# Altium schematic symbol library N-MOSFET-D.SchLib: 1 symbol
Pins are listed as number, name and electrical type; pins without a type are passive.

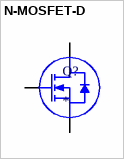
[diagram p0: symbol N-MOSFET-D]

## N-MOSFET-D
designator Q?
pins: 1 G, 2 D, 3 S